# Altium footprint library local.PcbLib: 16 footprints
Each footprint in its own frame and in the unit in brackets; x right, y up, seen from the top. Pads: shape width x height; smd on the part's side, far side on the other; paste and mask are expansions set on the pad; w line width, h text height; cw(c..) or ccw(c..) is an arc to the next point about the centre after c.
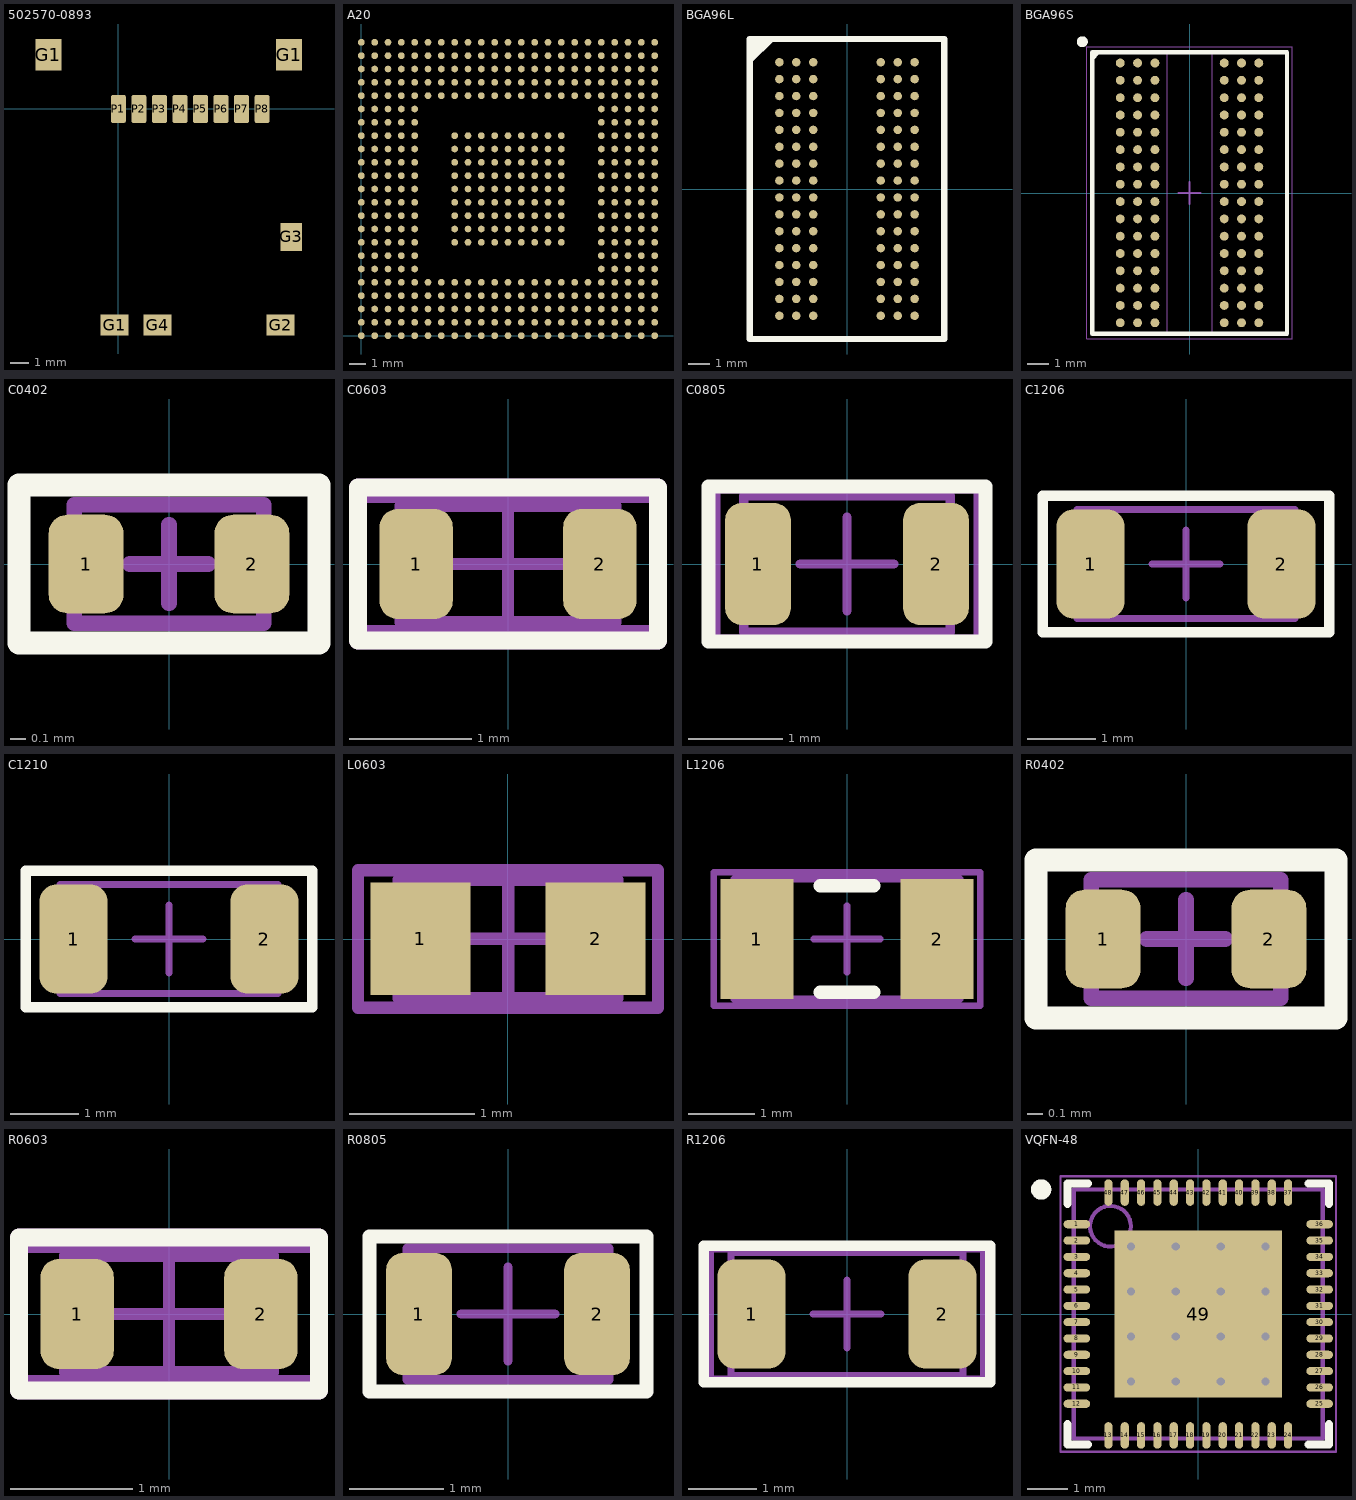
[diagram p0: the footprints below, top view; thin cyan lines are the x and y axes]

## 502570-0893 [mm]
pads (14):
  rect 1.4x1.7 smd paste-0.025: G1(-3.75,2.9) G1(9.15,2.9)
  rect 1.5x1.15 smd paste-0.025: G1(-0.2,-11.575) G2(8.7,-11.575) G4(2.1,-11.575)
  rect 1.15x1.5 smd paste-0.025: G3(9.275,-6.85)
  rrect25% 0.8x1.5 smd paste-0.025: P1(0,0) P2(1.1,0) P3(2.2,0) P4(3.3,0) P5(4.4,0) P6(5.5,0) P7(6.6,0) P8(7.7,0)
3D body: height 1.8, standoff 0, extent -4.17,-11.96 9.63,3.54

## A20 [mm]
pads (441):
  round 0.4 smd: A1(0,17.6) A2(0.8,17.6) A3(1.6,17.6) A4(2.4,17.6) A5(3.2,17.6) A6(4,17.6) A7(4.8,17.6) A8(5.6,17.6) A9(6.4,17.6) A10(7.2,17.6) A11(8,17.6) A12(8.8,17.6) A13(9.6,17.6) A14(10.4,17.6) A15(11.2,17.6) A16(12,17.6) A17(12.8,17.6) A18(13.6,17.6) A19(14.4,17.6) A20(15.2,17.6) A21(16,17.6) A22(16.8,17.6) A23(17.6,17.6) AA1(0,1.6) AA2(0.8,1.6) AA3(1.6,1.6) AA4(2.4,1.6) AA5(3.2,1.6) AA6(4,1.6) AA7(4.8,1.6) AA8(5.6,1.6) AA9(6.4,1.6) AA10(7.2,1.6) AA11(8,1.6) AA12(8.8,1.6) AA13(9.6,1.6) AA14(10.4,1.6) AA15(11.2,1.6) AA16(12,1.6) AA17(12.8,1.6) AA18(13.6,1.6) AA19(14.4,1.6) AA20(15.2,1.6) AA21(16,1.6) AA22(16.8,1.6) AA23(17.6,1.6) AB1(0,0.8) AB2(0.8,0.8) AB3(1.6,0.8) AB4(2.4,0.8) AB5(3.2,0.8) AB6(4,0.8) AB7(4.8,0.8) AB8(5.6,0.8) AB9(6.4,0.8) AB10(7.2,0.8) AB11(8,0.8) AB12(8.8,0.8) AB13(9.6,0.8) AB14(10.4,0.8) AB15(11.2,0.8) AB16(12,0.8) AB17(12.8,0.8) AB18(13.6,0.8) AB19(14.4,0.8) AB20(15.2,0.8) AB21(16,0.8) AB22(16.8,0.8) AB23(17.6,0.8) AC1(0,0) AC2(0.8,0) AC3(1.6,0) AC4(2.4,0) AC5(3.2,0) AC6(4,0) AC7(4.8,0) AC8(5.6,0) AC9(6.4,0) AC10(7.2,0) AC11(8,0) AC12(8.8,0) AC13(9.6,0) AC14(10.4,0) AC15(11.2,0) AC16(12,0) AC17(12.8,0) AC18(13.6,0) AC19(14.4,0) AC20(15.2,0) AC21(16,0) AC22(16.8,0) AC23(17.6,0) B1(0,16.8) B2(0.8,16.8) B3(1.6,16.8) B4(2.4,16.8) B5(3.2,16.8) B6(4,16.8) B7(4.8,16.8) B8(5.6,16.8) B9(6.4,16.8) B10(7.2,16.8) B11(8,16.8) B12(8.8,16.8) B13(9.6,16.8) B14(10.4,16.8) B15(11.2,16.8) B16(12,16.8) B17(12.8,16.8) B18(13.6,16.8) B19(14.4,16.8) B20(15.2,16.8) B21(16,16.8) B22(16.8,16.8) B23(17.6,16.8) C1(0,16) C2(0.8,16) C3(1.6,16) C4(2.4,16) C5(3.2,16) C6(4,16) C7(4.8,16) C8(5.6,16) C9(6.4,16) C10(7.2,16) C11(8,16) C12(8.8,16) C13(9.6,16) C14(10.4,16) C15(11.2,16) C16(12,16) C17(12.8,16) C18(13.6,16) C19(14.4,16) C20(15.2,16) C21(16,16) C22(16.8,16) C23(17.6,16) D1(0,15.2) D2(0.8,15.2) D3(1.6,15.2) D4(2.4,15.2) D5(3.2,15.2) D6(4,15.2) D7(4.8,15.2) D8(5.6,15.2) D9(6.4,15.2) D10(7.2,15.2) D11(8,15.2) D12(8.8,15.2) D13(9.6,15.2) D14(10.4,15.2) D15(11.2,15.2) D16(12,15.2) D17(12.8,15.2) D18(13.6,15.2) D19(14.4,15.2) D20(15.2,15.2) D21(16,15.2) D22(16.8,15.2) D23(17.6,15.2) E1(0,14.4) E2(0.8,14.4) E3(1.6,14.4) E4(2.4,14.4) E5(3.2,14.4) E6(4,14.4) E7(4.8,14.4) E8(5.6,14.4) E9(6.4,14.4) E10(7.2,14.4) E11(8,14.4) E12(8.8,14.4) E13(9.6,14.4) E14(10.4,14.4) E15(11.2,14.4) E16(12,14.4) E17(12.8,14.4) E18(13.6,14.4) E19(14.4,14.4) E20(15.2,14.4) E21(16,14.4) E22(16.8,14.4) E23(17.6,14.4) F1(0,13.6) F2(0.8,13.6) F3(1.6,13.6) F4(2.4,13.6) F5(3.2,13.6) F19(14.4,13.6) F20(15.2,13.6) F21(16,13.6) F22(16.8,13.6) F23(17.6,13.6) G1(0,12.8) G2(0.8,12.8) G3(1.6,12.8) G4(2.4,12.8) G5(3.2,12.8) G19(14.4,12.8) G20(15.2,12.8) G21(16,12.8) G22(16.8,12.8) G23(17.6,12.8) H1(0,12) H2(0.8,12) H3(1.6,12) H4(2.4,12) H5(3.2,12) H8(5.6,12) H9(6.4,12) H10(7.2,12) H11(8,12) H12(8.8,12) H13(9.6,12) H14(10.4,12) H15(11.2,12) H16(12,12) H19(14.4,12) H20(15.2,12) H21(16,12) H22(16.8,12) H23(17.6,12) J1(0,11.2) J2(0.8,11.2) J3(1.6,11.2) J4(2.4,11.2) J5(3.2,11.2) J8(5.6,11.2) J9(6.4,11.2) J10(7.2,11.2) J11(8,11.2) J12(8.8,11.2) J13(9.6,11.2) J14(10.4,11.2) J15(11.2,11.2) J16(12,11.2) J19(14.4,11.2) J20(15.2,11.2) J21(16,11.2) J22(16.8,11.2) J23(17.6,11.2) K1(0,10.4) K2(0.8,10.4) K3(1.6,10.4) K4(2.4,10.4) K5(3.2,10.4) K8(5.6,10.4) K9(6.4,10.4) K10(7.2,10.4) K11(8,10.4) K12(8.8,10.4) K13(9.6,10.4) K14(10.4,10.4) K15(11.2,10.4) K16(12,10.4) K19(14.4,10.4) K20(15.2,10.4) K21(16,10.4) K22(16.8,10.4) K23(17.6,10.4) L1(0,9.6) L2(0.8,9.6) L3(1.6,9.6) L4(2.4,9.6) L5(3.2,9.6) L8(5.6,9.6) L9(6.4,9.6) L10(7.2,9.6) L11(8,9.6) L12(8.8,9.6) L13(9.6,9.6) L14(10.4,9.6) L15(11.2,9.6) L16(12,9.6) L19(14.4,9.6) L20(15.2,9.6) L21(16,9.6) L22(16.8,9.6) L23(17.6,9.6) M1(0,8.8) M2(0.8,8.8) M3(1.6,8.8) M4(2.4,8.8) M5(3.2,8.8) M8(5.6,8.8) M9(6.4,8.8) M10(7.2,8.8) M11(8,8.8) M12(8.8,8.8) M13(9.6,8.8) M14(10.4,8.8) M15(11.2,8.8) M16(12,8.8) M19(14.4,8.8) M20(15.2,8.8) M21(16,8.8) M22(16.8,8.8) M23(17.6,8.8) N1(0,8) N2(0.8,8) N3(1.6,8) N4(2.4,8) N5(3.2,8) N8(5.6,8) N9(6.4,8) N10(7.2,8) N11(8,8) N12(8.8,8) N13(9.6,8) N14(10.4,8) N15(11.2,8) N16(12,8) N19(14.4,8) N20(15.2,8) N21(16,8) N22(16.8,8) N23(17.6,8) P1(0,7.2) P2(0.8,7.2) P3(1.6,7.2) P4(2.4,7.2) P5(3.2,7.2) P8(5.6,7.2) P9(6.4,7.2) P10(7.2,7.2) P11(8,7.2) P12(8.8,7.2) P13(9.6,7.2) P14(10.4,7.2) P15(11.2,7.2) P16(12,7.2) P19(14.4,7.2) P20(15.2,7.2) P21(16,7.2) P22(16.8,7.2) P23(17.6,7.2) R1(0,6.4) R2(0.8,6.4) R3(1.6,6.4) R4(2.4,6.4) R5(3.2,6.4) R8(5.6,6.4) R9(6.4,6.4) R10(7.2,6.4) R11(8,6.4) R12(8.8,6.4) R13(9.6,6.4) R14(10.4,6.4) R15(11.2,6.4) R16(12,6.4) R19(14.4,6.4) R20(15.2,6.4) R21(16,6.4) R22(16.8,6.4) R23(17.6,6.4) T1(0,5.6) T2(0.8,5.6) T3(1.6,5.6) T4(2.4,5.6) T5(3.2,5.6) T8(5.6,5.6) T9(6.4,5.6) T10(7.2,5.6) T11(8,5.6) T12(8.8,5.6) T13(9.6,5.6) T14(10.4,5.6) T15(11.2,5.6) T16(12,5.6) T19(14.4,5.6) T20(15.2,5.6) T21(16,5.6) T22(16.8,5.6) T23(17.6,5.6) U1(0,4.8) U2(0.8,4.8) U3(1.6,4.8) U4(2.4,4.8) U5(3.2,4.8) U19(14.4,4.8) U20(15.2,4.8) U21(16,4.8) U22(16.8,4.8) U23(17.6,4.8) V1(0,4) V2(0.8,4) V3(1.6,4) V4(2.4,4) V5(3.2,4) V19(14.4,4) V20(15.2,4) V21(16,4) V22(16.8,4) V23(17.6,4) W1(0,3.2) W2(0.8,3.2) W3(1.6,3.2) W4(2.4,3.2) W5(3.2,3.2) W6(4,3.2) W7(4.8,3.2) W8(5.6,3.2) W9(6.4,3.2) W10(7.2,3.2) W11(8,3.2) W12(8.8,3.2) W13(9.6,3.2) W14(10.4,3.2) W15(11.2,3.2) W16(12,3.2) W17(12.8,3.2) W18(13.6,3.2) W19(14.4,3.2) W20(15.2,3.2) W21(16,3.2) W22(16.8,3.2) W23(17.6,3.2) Y1(0,2.4) Y2(0.8,2.4) Y3(1.6,2.4) Y4(2.4,2.4) Y5(3.2,2.4) Y6(4,2.4) Y7(4.8,2.4) Y8(5.6,2.4) Y9(6.4,2.4) Y10(7.2,2.4) Y11(8,2.4) Y12(8.8,2.4) Y13(9.6,2.4) Y14(10.4,2.4) Y15(11.2,2.4) Y16(12,2.4) Y17(12.8,2.4) Y18(13.6,2.4) Y19(14.4,2.4) Y20(15.2,2.4) Y21(16,2.4) Y22(16.8,2.4) Y23(17.6,2.4)

## BGA96L [mm]
pads (96):
  round 0.4 smd: A1(-3.2,6) A2(-2.4,6) A3(-1.6,6) A7(1.6,6) A8(2.4,6) A9(3.2,6) B1(-3.2,5.2) B2(-2.4,5.2) B3(-1.6,5.2) B7(1.6,5.2) B8(2.4,5.2) B9(3.2,5.2) C1(-3.2,4.4) C2(-2.4,4.4) C3(-1.6,4.4) C7(1.6,4.4) C8(2.4,4.4) C9(3.2,4.4) D1(-3.2,3.6) D2(-2.4,3.6) D3(-1.6,3.6) D7(1.6,3.6) D8(2.4,3.6) D9(3.2,3.6) E1(-3.2,2.8) E2(-2.4,2.8) E3(-1.6,2.8) E7(1.6,2.8) E8(2.4,2.8) E9(3.2,2.8) F1(-3.2,2) F2(-2.4,2) F3(-1.6,2) F7(1.6,2) F8(2.4,2) F9(3.2,2) G1(-3.2,1.2) G2(-2.4,1.2) G3(-1.6,1.2) G7(1.6,1.2) G8(2.4,1.2) G9(3.2,1.2) H1(-3.2,0.4) H2(-2.4,0.4) H3(-1.6,0.4) H7(1.6,0.4) H8(2.4,0.4) H9(3.2,0.4) J1(-3.2,-0.4) J2(-2.4,-0.4) J3(-1.6,-0.4) J7(1.6,-0.4) J8(2.4,-0.4) J9(3.2,-0.4) K1(-3.2,-1.2) K2(-2.4,-1.2) K3(-1.6,-1.2) K7(1.6,-1.2) K8(2.4,-1.2) K9(3.2,-1.2) L1(-3.2,-2) L2(-2.4,-2) L3(-1.6,-2) L7(1.6,-2) L8(2.4,-2) L9(3.2,-2) M1(-3.2,-2.8) M2(-2.4,-2.8) M3(-1.6,-2.8) M7(1.6,-2.8) M8(2.4,-2.8) M9(3.2,-2.8) N1(-3.2,-3.6) N2(-2.4,-3.6) N3(-1.6,-3.6) N7(1.6,-3.6) N8(2.4,-3.6) N9(3.2,-3.6) P1(-3.2,-4.4) P2(-2.4,-4.4) P3(-1.6,-4.4) P7(1.6,-4.4) P8(2.4,-4.4) P9(3.2,-4.4) R1(-3.2,-5.2) R2(-2.4,-5.2) R3(-1.6,-5.2) R7(1.6,-5.2) R8(2.4,-5.2) R9(3.2,-5.2) T1(-3.2,-6) T2(-2.4,-6) T3(-1.6,-6) T7(1.6,-6) T8(2.4,-6) T9(3.2,-6)
Top Overlay:
  lines w0.3: -4.6,6.5 -4.6,6.6 -4.1,7.1 -3.6,7.1 -4.6,6.1 -4.6,6.4 -3.9,7.1 ; -4.6,-7.1 4.6,-7.1 4.6,7.1 4,7.1 -4.6,7.1 -4.6,-7.1
3D body: height 1.05, standoff -0.05, extent -4.5,-7 4.5,7

## BGA96S [mm]
pads (96):
  round 0.41 smd: A1(-3.21,6.01) A2(-2.41,6.01) A3(-1.61,6.01) A7(1.59,6.01) A8(2.39,6.01) A9(3.19,6.01) B1(-3.21,5.21) B2(-2.41,5.21) B3(-1.61,5.21) B7(1.59,5.21) B8(2.39,5.21) B9(3.19,5.21) C1(-3.21,4.41) C2(-2.41,4.41) C3(-1.61,4.41) C7(1.59,4.41) C8(2.39,4.41) C9(3.19,4.41) D1(-3.21,3.61) D2(-2.41,3.61) D3(-1.61,3.61) D7(1.59,3.61) D8(2.39,3.61) D9(3.19,3.61) E1(-3.21,2.81) E2(-2.41,2.81) E3(-1.61,2.81) E7(1.59,2.81) E8(2.39,2.81) E9(3.19,2.81) F1(-3.21,2.01) F2(-2.41,2.01) F3(-1.61,2.01) F7(1.59,2.01) F8(2.39,2.01) F9(3.19,2.01) G1(-3.21,1.21) G2(-2.41,1.21) G3(-1.61,1.21) G7(1.59,1.21) G8(2.39,1.21) G9(3.19,1.21) H1(-3.21,0.41) H2(-2.41,0.41) H3(-1.61,0.41) H7(1.59,0.41) H8(2.39,0.41) H9(3.19,0.41) J1(-3.21,-0.39) J2(-2.41,-0.39) J3(-1.61,-0.39) J7(1.59,-0.39) J8(2.39,-0.39) J9(3.19,-0.39) K1(-3.21,-1.19) K2(-2.41,-1.19) K3(-1.61,-1.19) K7(1.59,-1.19) K8(2.39,-1.19) K9(3.19,-1.19) L1(-3.21,-1.99) L2(-2.41,-1.99) L3(-1.61,-1.99) L7(1.59,-1.99) L8(2.39,-1.99) L9(3.19,-1.99) M1(-3.21,-2.79) M2(-2.41,-2.79) M3(-1.61,-2.79) M7(1.59,-2.79) M8(2.39,-2.79) M9(3.19,-2.79) N1(-3.21,-3.59) N2(-2.41,-3.59) N3(-1.61,-3.59) N7(1.59,-3.59) N8(2.39,-3.59) N9(3.19,-3.59) P1(-3.21,-4.39) P2(-2.41,-4.39) P3(-1.61,-4.39) P7(1.59,-4.39) P8(2.39,-4.39) P9(3.19,-4.39) R1(-3.21,-5.19) R2(-2.41,-5.19) R3(-1.61,-5.19) R7(1.59,-5.19) R8(2.39,-5.19) R9(3.19,-5.19) T1(-3.21,-5.99) T2(-2.41,-5.99) T3(-1.61,-5.99) T7(1.59,-5.99) T8(2.39,-5.99) T9(3.19,-5.99)
Top Overlay:
  circle w0.25: c-4.963,6.995 r0.125
  lines w0.2: -4.51,6.233 -4.233,6.51 -4.201,6.51 ; -4.51,-6.49 4.49,-6.49 4.49,6.51 -4.51,6.51 -4.51,-6.49
3D Top:
  lines w0.005: -1.048,-6.49 -1.048,6.51 1.028,6.51 1.028,-6.49 -1.048,-6.49
  lines w0.1: -4.51,-6.49 -4.51,6.51 4.49,6.51 4.49,-6.49 -4.51,-6.49
Courtyard Top:
  lines w0.05: -4.76,-6.74 4.74,-6.74 4.74,6.76 -4.76,6.76 -4.76,-6.74
  lines w0.1: -0.51,0.01 0.49,0.01 ; -0.01,-0.49 -0.01,0.51
3D body: height 1.2, standoff 0.25, extent -4.51,-6.49 4.49,6.51
3D body: height 0.25, standoff 0.05, extent -1.048,-6.49 1.028,6.51

## C0402 [mil]
pads (2):
  rrect50% 19x25 smd: 1(-21,0) 2(21,0)
Top Overlay:
  lines w5.91: -38,-20 -38,20 38,20 38,-20 -38,-20
3D Top:
  lines w3.94: -24,-15 -24,15 24,15 24,-15 -24,-15
Courtyard Top:
  lines w3.94: -10,0 10,0 ; 0,-10 0,10
3D body: height 7.95, standoff 0, extent -19.68,-11.81 19.69,11.81

## C0603 [mm]
pads (2):
  rrect50% 0.6x0.9 smd: 1(-0.75,0) 2(0.75,0)
Top Overlay:
  lines w0.15: -0.975,-0.625 0.975,-0.625 ; -0.975,0.625 0.975,0.625 ; -1.225,-0.625 1.225,-0.625 1.225,0.625 -1.225,0.625 -1.225,-0.625
3D Top:
  lines w0.1: -0.875,-0.475 -0.875,0.475 0.875,0.475 0.875,-0.475 -0.875,-0.475
Courtyard Top:
  lines w0.1: -0.475,0 0.475,0 ; 0,-0.475 0,0.475 ; -1.2,-0.55 -1.2,0.55 1.2,0.55 1.2,-0.55 -1.2,-0.55
  lines w0.15: -1.225,-0.625 1.225,-0.625 1.225,0.625 -1.225,0.625 -1.225,-0.625
3D body: height 0.86, standoff 0, extent -0.8,-0.4 0.8,0.4

## C0805 [mm]
pads (2):
  rrect50% 0.7x1.3 smd: 1(-0.95,0) 2(0.95,0)
Top Overlay:
  lines w0.15: -1.225,-0.825 1.225,-0.825 ; -1.225,0.825 1.225,0.825 ; -1.475,-0.825 -1.475,0.825 1.475,0.825 1.475,-0.825 -1.475,-0.825
3D Top:
  lines w0.1: -1.1,-0.725 -1.1,0.725 1.1,0.725 1.1,-0.725 -1.1,-0.725
Courtyard Top:
  lines w0.1: -0.5,0 0.5,0 ; 0,-0.5 0,0.5 ; -1.475,-0.825 -1.475,0.825 1.475,0.825 1.475,-0.825 -1.475,-0.825 ; -1.4,-0.8 -1.4,0.8 1.4,0.8 1.4,-0.8 -1.4,-0.8
3D body: height 0.78, standoff 0, extent -1,-0.625 1,0.625
3D body: height 0.78, standoff 0, extent -1,-0.625 1,0.625

## C1206 [mm]
pads (2):
  rrect50% 1x1.6 smd: 1(-1.4,0) 2(1.4,0)
Top Overlay:
  lines w0.15: -2.1,-1 2.1,-1 2.1,1 -2.1,1 -2.1,-1
Courtyard Top:
  lines w0.1: -0.5,0 0.5,0 ; 0,-0.5 0,0.5 ; -1.6,-0.8 1.6,-0.8 1.6,0.8 -1.6,0.8 -1.6,-0.8
3D body: height 1, standoff 0, extent -1.6,-0.8 1.6,0.8

## C1210 [mm]
pads (2):
  rrect50% 1x1.6 smd: 1(-1.4,0) 2(1.4,0)
Top Overlay:
  lines w0.15: -2.1,-1 2.1,-1 2.1,1 -2.1,1 -2.1,-1
Courtyard Top:
  lines w0.1: -0.5,0 0.5,0 ; 0,-0.5 0,0.5 ; -1.6,-0.8 1.6,-0.8 1.6,0.8 -1.6,0.8 -1.6,-0.8
3D body: height 1, standoff 0, extent -1.6,-0.8 1.6,0.8

## L0603 [mm]
pads (2):
  rect 0.8x0.9 smd: 1(-0.7,0) 2(0.7,0)
3D Top:
  lines w0.1: -0.875,-0.475 -0.875,0.475 0.875,0.475 0.875,-0.475 -0.875,-0.475
Courtyard Top:
  lines w0.1: -0.475,0 0.475,0 ; 0,-0.475 0,0.475 ; -1.2,-0.55 -1.2,0.55 1.2,0.55 1.2,-0.55 -1.2,-0.55
3D body: height 0.8, standoff 0, extent -0.8,-0.442 0.8,0.508

## L1206 [mm]
pads (2):
  rect 1.1x1.8 smd: 1(-1.35,0) 2(1.35,0)
Top Overlay:
  lines w0.2: -0.4,-0.8 0.4,-0.8 ; -0.4,0.8 0.4,0.8
3D Top:
  lines w0.1: -1.7,-0.9 -1.7,0.9 1.7,0.9 1.7,-0.9 -1.7,-0.9
Courtyard Top:
  lines w0.1: -0.5,0 0.5,0 ; 0,-0.5 0,0.5 ; -2,-1 -2,1 2,1 2,-1 -2,-1
3D body: height 1.1, standoff 0, extent -1.6,-0.8 1.6,0.8

## R0402 [mil]
pads (2):
  rrect50% 19x25 smd: 1(-21,0) 2(21,0)
Top Overlay:
  lines w5.91: -38,-20 -38,20 38,20 38,-20 -38,-20
3D Top:
  lines w3.94: -24,-15 -24,15 24,15 24,-15 -24,-15
Courtyard Top:
  lines w3.94: -10,0 10,0 ; 0,-10 0,10
3D body: height 13.78, standoff 0, extent -19.68,-9.84 19.69,9.84

## R0603 [mm]
pads (2):
  rrect50% 0.6x0.9 smd: 1(-0.75,0) 2(0.75,0)
Top Overlay:
  lines w0.15: -0.975,-0.625 0.975,-0.625 ; -0.975,0.625 0.975,0.625 ; -1.225,-0.625 -1.225,0.625 1.225,0.625 1.225,-0.625 -1.225,-0.625
3D Top:
  lines w0.1: -0.85,-0.475 0.85,-0.475 0.85,0.475 -0.85,0.475 -0.85,-0.475
Courtyard Top:
  lines w0.1: -0.475,0 0.475,0 ; 0,-0.475 0,0.475 ; -1.2,-0.55 1.2,-0.55 1.2,0.55 -1.2,0.55 -1.2,-0.55
  lines w0.15: -1.225,-0.625 -1.225,0.625 1.225,0.625 1.225,-0.625 -1.225,-0.625
3D body: height 0.3, standoff 0, extent -0.8,-0.4 0.8,0.4

## R0805 [mm]
pads (2):
  rrect50% 0.7x1.3 smd: 1(-0.95,0) 2(0.95,0)
Top Overlay:
  lines w0.15: -1.225,-0.825 1.225,-0.825 ; -1.225,0.825 1.225,0.825 ; -1.475,-0.825 1.475,-0.825 1.475,0.825 -1.475,0.825 -1.475,-0.825
3D Top:
  lines w0.1: -1.075,-0.7 -1.075,0.7 1.075,0.7 1.075,-0.7 -1.075,-0.7
Courtyard Top:
  lines w0.1: -0.5,0 0.5,0 ; 0,-0.5 0,0.5 ; -1.475,-0.825 1.475,-0.825 1.475,0.825 -1.475,0.825 -1.475,-0.825
3D body: height 0.78, standoff 0, extent -1,-0.625 1,0.625

## R1206 [mm]
pads (2):
  rrect50% 1x1.6 smd: 1(-1.4,0) 2(1.4,0)
Top Overlay:
  lines w0.15: -2.1,-1 -2.1,1 2.1,1 2.1,-1 -2.1,-1
3D Top:
  lines w0.1: -1.7,-0.9 -1.7,0.9 1.7,0.9 1.7,-0.9 -1.7,-0.9
Courtyard Top:
  lines w0.1: -0.5,0 0.5,0 ; 0,-0.5 0,0.5 ; -2.1,-1 -2.1,1 2.1,1 2.1,-1 -2.1,-1 ; -2,-0.95 -2,0.95 2,0.95 2,-0.95 -2,-0.95
3D body: height 1, standoff 0, extent -1.6,-0.8 1.6,0.8

## VQFN-48 [mm]
pads (49):
  oval 0.65x0.2 smd: 1(-2.975,2.2) 2(-2.975,1.8) 3(-2.975,1.4) 4(-2.975,1) 5(-2.975,0.6) 6(-2.975,0.2) 7(-2.975,-0.2) 8(-2.975,-0.6) 9(-2.975,-1) 10(-2.975,-1.4) 11(-2.975,-1.8) 12(-2.975,-2.2) 25(2.975,-2.2) 26(2.975,-1.8) 27(2.975,-1.4) 28(2.975,-1) 29(2.975,-0.6) 30(2.975,-0.2) 31(2.975,0.2) 32(2.975,0.6) 33(2.975,1) 34(2.975,1.4) 35(2.975,1.8) 36(2.975,2.2)
  oval 0.2x0.65 smd: 13(-2.2,-2.975) 14(-1.8,-2.975) 15(-1.4,-2.975) 16(-1,-2.975) 17(-0.6,-2.975) 18(-0.2,-2.975) 19(0.2,-2.975) 20(0.6,-2.975) 21(1,-2.975) 22(1.4,-2.975) 23(1.8,-2.975) 24(2.2,-2.975) 37(2.2,2.975) 38(1.8,2.975) 39(1.4,2.975) 40(1,2.975) 41(0.6,2.975) 42(0.2,2.975) 43(-0.2,2.975) 44(-0.6,2.975) 45(-1,2.975) 46(-1.4,2.975) 47(-1.8,2.975) 48(-2.2,2.975)
  rect 4.1x4.1 smd: 49(0,0)
via 1.65,-1.65 diameter 0.5 hole 0.2
via 0.55,-1.65 diameter 0.5 hole 0.2
via -0.55,-1.65 diameter 0.5 hole 0.2
via -1.65,-1.65 diameter 0.5 hole 0.2
via 1.65,-0.55 diameter 0.5 hole 0.2
via 0.55,-0.55 diameter 0.5 hole 0.2
via -0.55,-0.55 diameter 0.5 hole 0.2
via -1.65,-0.55 diameter 0.5 hole 0.2
via 1.65,0.55 diameter 0.5 hole 0.2
via 0.55,0.55 diameter 0.5 hole 0.2
via -0.55,0.55 diameter 0.5 hole 0.2
via -1.65,0.55 diameter 0.5 hole 0.2
via 1.65,1.65 diameter 0.5 hole 0.2
via 0.55,1.65 diameter 0.5 hole 0.2
via -0.55,1.65 diameter 0.5 hole 0.2
via -1.65,1.65 diameter 0.5 hole 0.2
Top Overlay:
  circle w0.25: c-3.85,3.05 r0.125
  lines w0.2: -3.2,-2.7 -3.2,-3.2 -2.7,-3.2 ; -3.2,2.7 -3.2,3.2 -2.7,3.2 ; 2.7,-3.2 3.2,-3.2 3.2,-2.7 ; 2.7,3.2 3.2,3.2 3.2,2.7
3D Top:
  circle w0.1: c-2.15,2.15 r0.5
  lines w0.1: -3.05,-3.05 3.05,-3.05 3.05,3.05 -3.05,3.05 -3.05,-3.05
Courtyard Top:
  lines w0.05: -3.375,-3.375 3.375,-3.375 3.375,3.375 -3.375,3.375 -3.375,-3.375
  lines w0.1: -0.5,0 0.5,0 ; 0,-0.5 0,0.5
3D body: height 0.92, standoff 0, extent -3.05,-3.05 3.05,3.05